# Altium footprint library Miscellaneous Devices.PcbLib: 177 footprints (part 2 of 12)
Each footprint in its own frame and in the unit in brackets; x right, y up, seen from the top. Pads: shape width x height; smd on the part's side, far side on the other; paste and mask are expansions set on the pad; w line width, h text height; cw(c..) or ccw(c..) is an arc to the next point about the centre after c.
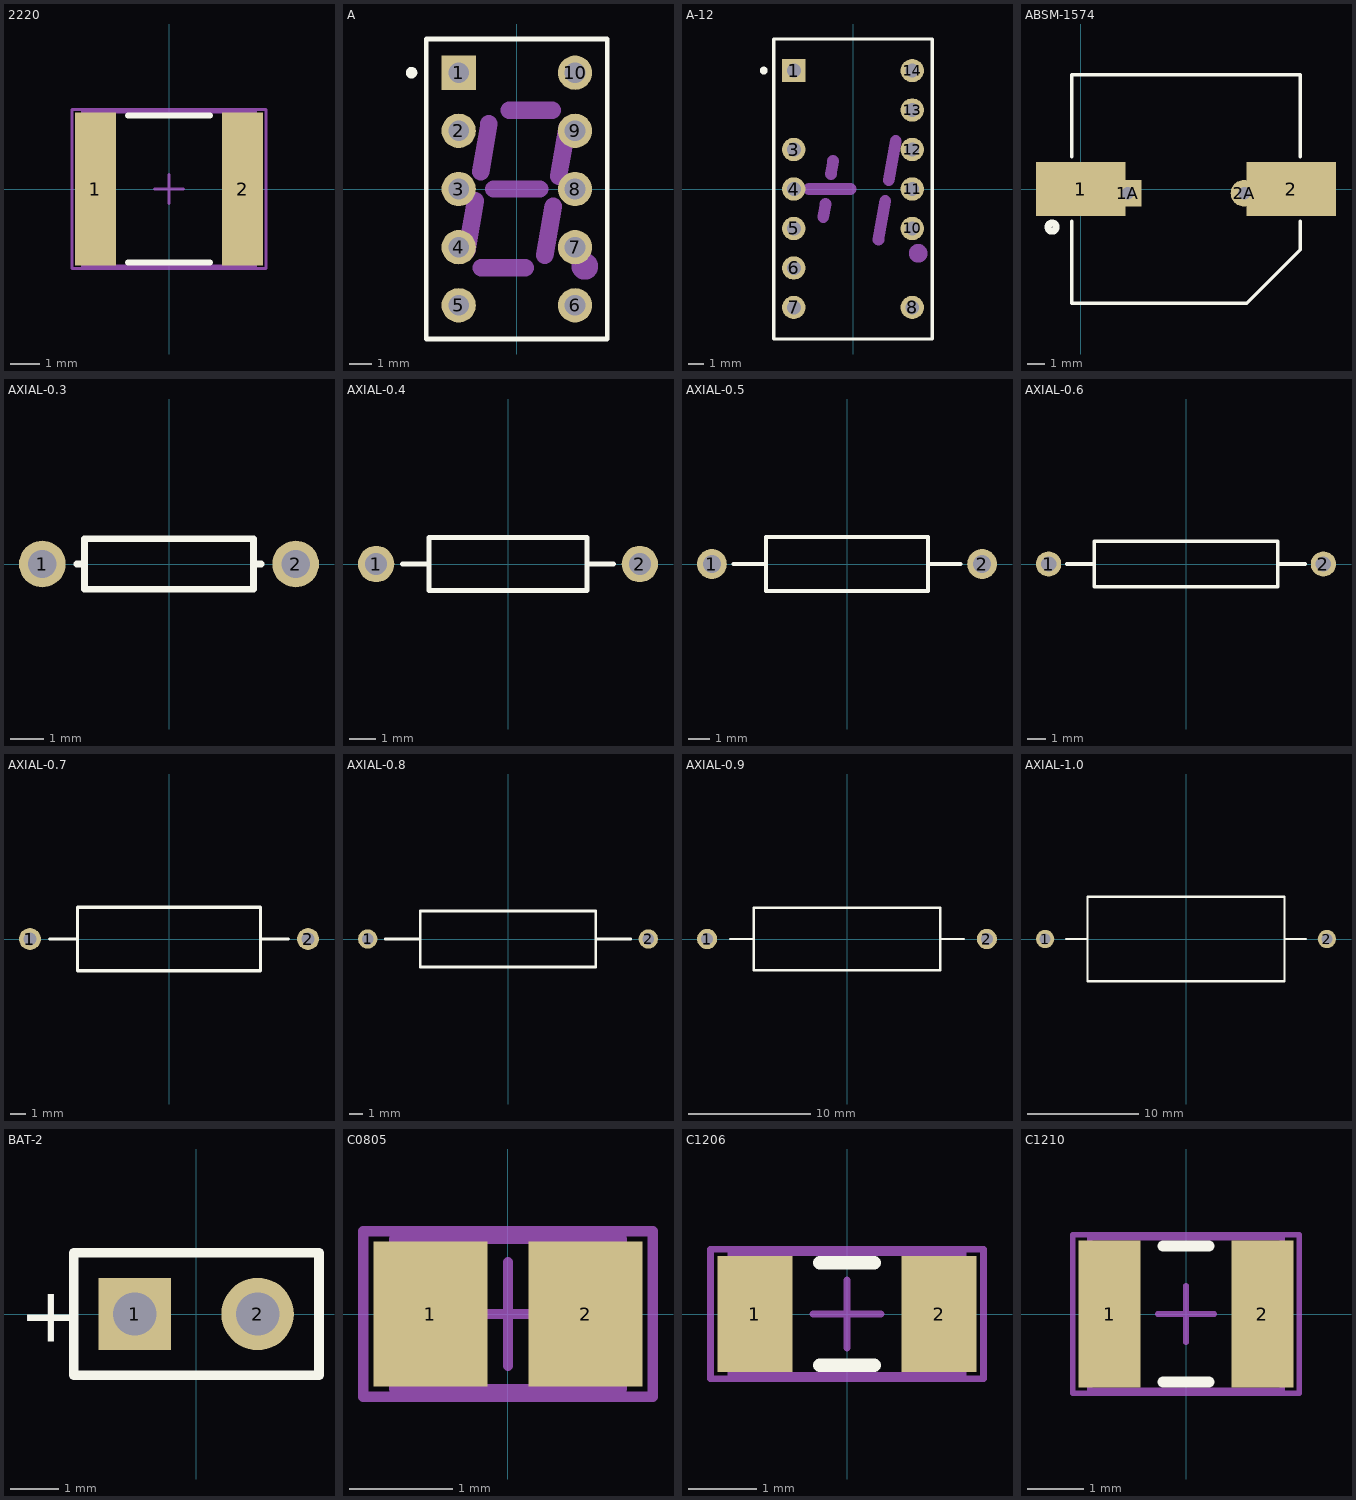
[diagram p1: the footprints below, top view; thin cyan lines are the x and y axes]

## 2220 [mm] "Chip Capacitor, Body 5.7x5.0mm, IPC High Density"
height 1.4
pads (2):
  rect 1.4x5.2 smd: 1(-2.5,0) 2(2.5,0)
Top Overlay:
  lines w0.2: -1.4,-2.5 1.4,-2.5 ; -1.4,2.5 1.4,2.5
Mechanical 13:
  lines w0.1: -2.95,-2.625 2.95,-2.625 2.95,2.625 -2.95,2.625 -2.95,-2.625
Mechanical 15:
  lines w0.1: -0.5,0 0.5,0 ; 0,-0.5 0,0.5 ; -3.3,-2.7 3.3,-2.7 3.3,2.7 -3.3,2.7 -3.3,-2.7
3D body: height 1.4, standoff 0, extent -2.95,-2.625 2.95,2.625

## A [mm] "LED, 7-Segment Display, 7.62 mm, RHD; 10 Leads; Row Space 5.08 mm; Pitch 2.54 mm"
height 6.34
pads (10):
  rect 1.5x1.5 hole 0.9: 1(-2.54,5.08)
  round 1.5 hole 0.9: 2(-2.54,2.54) 3(-2.54,0) 4(-2.54,-2.54) 5(-2.54,-5.08) 6(2.54,-5.08) 7(2.54,-2.54) 8(2.54,0) 9(2.54,2.54) 10(2.54,5.08)
Top Overlay:
  circle w0.25: c-4.6,5.08 r0.125
  lines w0.2: -3.95,-6.55 3.95,-6.55 3.95,6.55 -3.95,6.55 -3.95,-6.55
Mechanical 1:
  circle w0.86: c2.97,-3.38 r0.15
  lines w0.762: -2.19,-2.69 -1.81,-0.52 ; -1.58,0.76 -1.22,2.84 ; -1.56,-3.43 0.36,-3.43 ; -1.004,0 1.004,0 ; -0.34,3.43 1.55,3.43 ; 1.22,-2.89 1.59,-0.76 ; 1.82,0.56 2.2,2.69
Mechanical 13:
  lines w0.1: -3.95,-6.55 3.95,-6.55 3.95,6.55 -3.95,6.55 -3.95,-6.55
3D body: height 6.34, standoff 0, extent -3.95,-6.55 3.95,6.55

## A-12 [mm] "LED, Universal ±1 Overflow, 7.62 mm, RHD; 14 Leads (2 Absent); Row Space 7.62 mm; Pitch 2.54 mm"
height 6.35
pads (12):
  rect 1.5x1.5 hole 0.9: 1(-3.81,7.62)
  round 1.5 hole 0.9: 3(-3.81,2.54) 4(-3.81,0) 5(-3.81,-2.54) 6(-3.81,-5.08) 7(-3.81,-7.62) 8(3.81,-7.62) 10(3.81,-2.54) 11(3.81,0) 12(3.81,2.54) 13(3.81,5.08) 14(3.81,7.62)
Top Overlay:
  circle w0.25: c-5.75,7.62 r0.125
  lines w0.2: -5.1,-9.65 5.1,-9.65 5.1,9.65 -5.1,9.65 -5.1,-9.65
Mechanical 1:
  circle w0.86: c4.19,-4.139 r0.17
  lines w0.762: -2.83,0 -0.17,0 ; -1.911,-1.799 -1.764,-0.962 ; -1.427,0.961 -1.28,1.8 ; 1.63,-3.262 2.071,-0.764 ; 2.303,0.565 2.747,3.084
Mechanical 13:
  lines w0.1: -5.1,-9.65 -5.1,9.65 5.1,9.65 5.1,-9.65 -5.1,-9.65
3D body: height 6.35, standoff 0, extent -5.1,-9.65 5.1,9.65

## ABSM-1574 [mm] "Magnetic Transducer Buzzer"
pads (4):
  rect 5x3 smd: 1(0,0) 2(11.8,0)
  rect 1.5x1.5 hole 0.7: 1A(2.65,-0.24)
  round 1.5 hole 0.7: 2A(9.15,-0.24)
Top Overlay:
  circle w0.4: c-1.6,-2.134 r0.227
  lines w0.2: -0.5,-1.8 -0.5,-6.4 9.3,-6.4 12.3,-3.4 12.3,-1.8 ; -0.5,1.8 -0.5,6.4 12.3,6.4 12.3,1.8

## AXIAL-0.3 [mm] "Axial Device, Thru-Hole; 2 Leads; 0.3 in Pin Spacing"
height 1.524
pads (2):
  round 1.4 hole 0.85: 1(-3.81,0) 2(3.81,0)
Top Overlay:
  lines w0.2: -2.769,0 -2.54,0 ; 2.769,0 2.54,0 ; 2.54,0 2.54,-0.762 -2.54,-0.762 -2.54,0.762 2.54,0.762 2.54,0

## AXIAL-0.4 [mm] "Axial Device, Thru-Hole; 2 Leads; 0.4 in Pin Spacing"
height 2.032
pads (2):
  round 1.4 hole 0.85: 1(-5.08,0) 2(5.08,0)
Top Overlay:
  lines w0.2: -4.064,0 -3.048,0 ; 3.048,0 4.064,0 ; -3.048,-1.016 -3.048,1.016 3.048,1.016 3.048,-1.016 -3.048,-1.016
3D body "User Library-AXIAL_RESISTOR(0_25W).step": height 2.6, standoff -1.5, extent -5.4,-1.257 5.4,1.143

## AXIAL-0.5 [mm] "Axial Device, Thru-Hole; 2 Leads; 0.5 in Pin Spacing"
height 2.54
pads (2):
  round 1.4 hole 0.85: 1(-6.35,0) 2(6.35,0)
Top Overlay:
  lines w0.2: -5.334,0 -3.81,0 ; 3.81,0 5.334,0 ; -3.81,-1.27 -3.81,1.27 3.81,1.27 3.81,-1.27 -3.81,-1.27

## AXIAL-0.6 [mm] "Axial Device, Thru-Hole; 2 Leads; 0.6 in Pin Spacing"
height 2.54
pads (2):
  round 1.4 hole 0.85: 1(-7.62,0) 2(7.62,0)
Top Overlay:
  lines w0.2: -6.604,0 -5.08,0 ; 5.08,0 6.604,0 ; -5.08,-1.27 -5.08,1.27 5.08,1.27 5.08,-1.27 -5.08,-1.27

## AXIAL-0.7 [mm] "Axial Device, Thru-Hole; 2 Leads; 0.7 in Pin Spacing"
height 4.064
pads (2):
  round 1.4 hole 0.85: 1(-8.89,0) 2(8.89,0)
Top Overlay:
  lines w0.2: -7.62,0 -5.842,0 ; 5.842,0 7.62,0 ; -5.842,-2.032 5.842,-2.032 5.842,2.032 -5.842,2.032 -5.842,-2.032

## AXIAL-0.8 [mm] "Axial Device, Thru-Hole; 2 Leads; 0.8 in Pin Spacing"
height 4.064
pads (2):
  round 1.4 hole 0.85: 1(-10.16,0) 2(10.16,0)
Top Overlay:
  lines w0.2: -8.89,0 -6.35,0 ; 6.35,0 8.89,0 ; -6.35,-2.032 -6.35,2.032 6.35,2.032 6.35,-2.032 -6.35,-2.032

## AXIAL-0.9 [mm] "Axial Device, Thru-Hole; 2 Leads; 0.9 in Pin Spacing"
height 5.08
pads (2):
  round 1.65 hole 1: 1(-11.43,0) 2(11.43,0)
Top Overlay:
  lines w0.2: -9.525,0 -7.62,0 ; 7.62,0 9.525,0 ; -7.62,-2.54 7.62,-2.54 7.62,2.54 -7.62,2.54 -7.62,-2.54

## AXIAL-1.0 [mm] "Axial Device, Thru-Hole; 2 Leads; 1.0 in Pin Spacing"
height 7.62
pads (2):
  round 1.65 hole 1: 1(-12.7,0) 2(12.7,0)
Top Overlay:
  lines w0.2: -10.795,0 -8.89,0 ; 8.89,0 10.795,0 ; -8.89,-3.81 -8.89,3.81 8.89,3.81 8.89,-3.81 -8.89,-3.81

## BAT-2 [mm] "Battery; 2 Leads"
pads (2):
  rect 1.5x1.5 hole 0.9: 1(-1.27,0)
  round 1.5 hole 0.9: 2(1.27,0)
Top Overlay:
  lines w0.2: -2.54,-1.27 2.54,-1.27 2.54,1.27 -2.54,1.27 -2.54,-1.27
  text "+" at -3.67,-0.577 h1.15

## C0805 [mm] "Chip Capacitor, Body 2.0x1.3mm, IPC High Density"
height 1.4
pads (2):
  rect 1.1x1.4 smd: 1(-0.75,0) 2(0.75,0)
Mechanical 13:
  lines w0.1: -1.1,-0.725 -1.1,0.725 1.1,0.725 1.1,-0.725 -1.1,-0.725
Mechanical 15:
  lines w0.1: -0.5,0 0.5,0 ; 0,-0.5 0,0.5 ; -1.4,-0.8 -1.4,0.8 1.4,0.8 1.4,-0.8 -1.4,-0.8
3D body: height 1.4, standoff 0, extent -1.1,-0.725 1.1,0.725

## C1206 [mm] "Chip Capacitor, Body 3.2x1.6mm, IPC High Density"
height 1.3
pads (2):
  rect 1.1x1.7 smd: 1(-1.35,0) 2(1.35,0)
Top Overlay:
  lines w0.2: -0.4,-0.75 0.4,-0.75 ; -0.4,0.75 0.4,0.75
Mechanical 13:
  lines w0.1: -1.7,-0.9 -1.7,0.9 1.7,0.9 1.7,-0.9 -1.7,-0.9
Mechanical 15:
  lines w0.1: -0.5,0 0.5,0 ; 0,-0.5 0,0.5 ; -2,-0.95 -2,0.95 2,0.95 2,-0.95 -2,-0.95
3D body: height 1.3, standoff 0, extent -1.7,-0.9 1.7,0.9

## C1210 [mm] "Chip Capacitor, Body 3.2x2.5mm, IPC High Density"
height 1.3
pads (2):
  rect 1.1x2.6 smd: 1(-1.35,0) 2(1.35,0)
Top Overlay:
  lines w0.2: -0.4,-1.2 0.4,-1.2 ; -0.4,1.2 0.4,1.2
Mechanical 13:
  lines w0.1: -1.7,-1.35 -1.7,1.35 1.7,1.35 1.7,-1.35 -1.7,-1.35
Mechanical 15:
  lines w0.1: -0.5,0 0.5,0 ; 0,-0.5 0,0.5 ; -2,-1.4 -2,1.4 2,1.4 2,-1.4 -2,-1.4
3D body: height 1.3, standoff 0, extent -1.7,-1.35 1.7,1.35